# EAGLE library part HMC1022 (library honeywell)
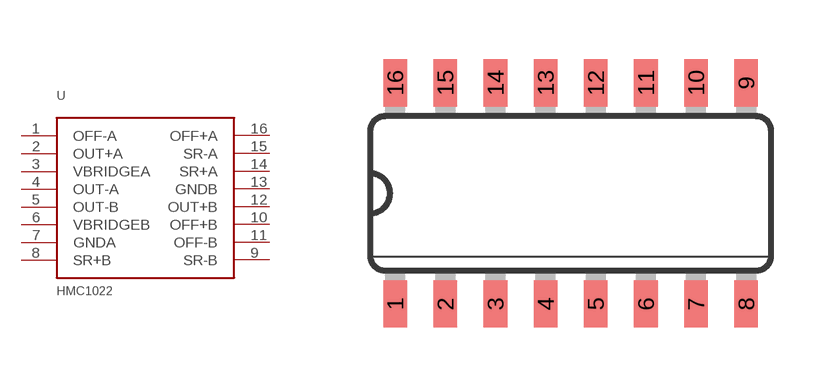
[diagram p1: symbol with the pads of SO16; footprint SO16]

Designator prefix -

## HMC1022  [SO16]
1  OFF-A
2  OUT+A
3  VBRIDGEA  pwr
4  OUT-A
5  OUT-B
6  VBRIDGEB  pwr
7  GNDA  pwr
8  SR+B
9  SR-B
10  OFF+B
11  OFF-B
12  OUT+B
13  GNDB  pwr
14  SR+A
15  SR-A
16  OFF+A

## Footprint SO16 (pad centres in mm)
Small Outline package 150 mil
smd 0.6 x 1.2: 1 -4.445,-2.8; 2 -3.175,-2.8; 3 -1.905,-2.8; 4 -0.635,-2.8; 5 0.635,-2.8; 6 1.905,-2.8; 7 3.175,-2.8; 8 4.445,-2.8; 9 4.445,2.8; 10 3.175,2.8; 11 1.905,2.8; 12 0.635,2.8; 13 -0.635,2.8; 14 -1.905,2.8; 15 -3.175,2.8; 16 -4.445,2.8